# Altium footprint library Connectors.PcbLib: 51 footprints (part 3 of 4)
Each footprint in its own frame and in the unit in brackets; x right, y up, seen from the top. Pads: shape width x height; smd on the part's side, far side on the other; paste and mask are expansions set on the pad; w line width, h text height; cw(c..) or ccw(c..) is an arc to the next point about the centre after c.
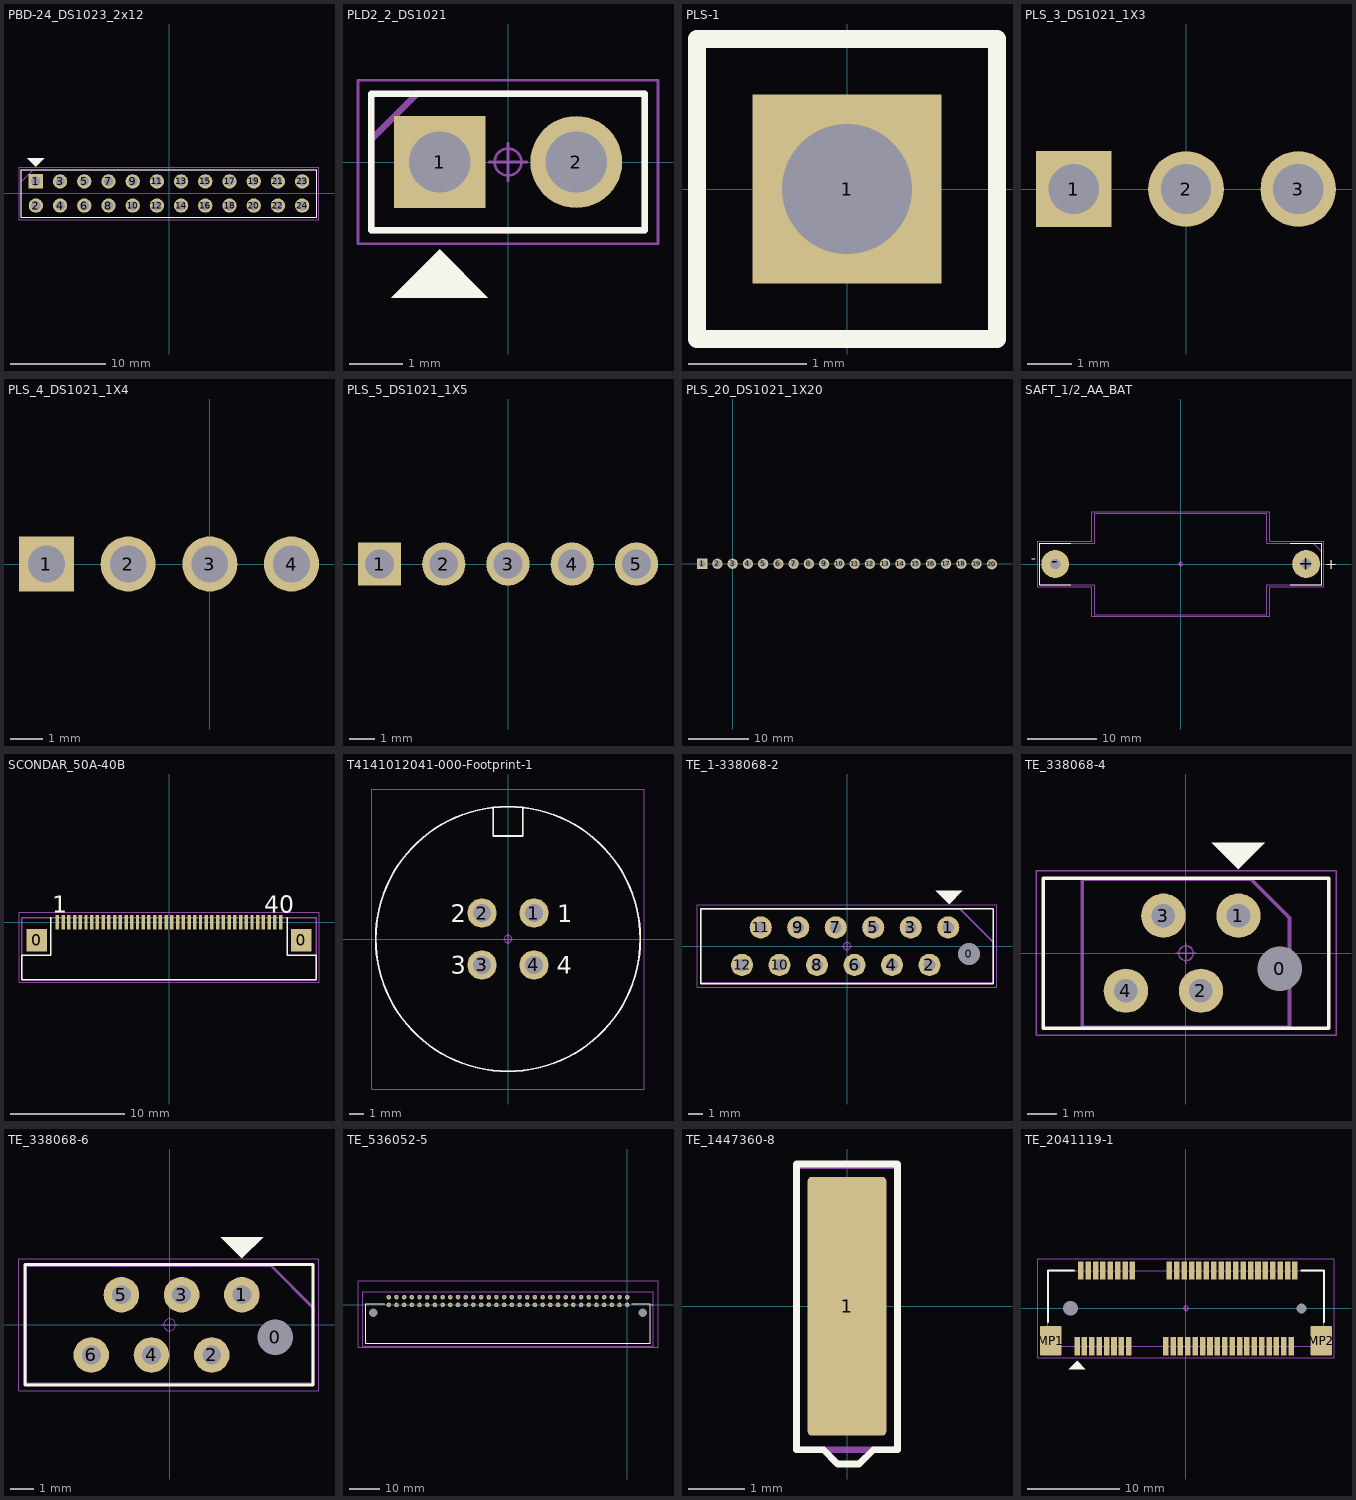
[diagram p2: the footprints below, top view; thin cyan lines are the x and y axes]

## PBD-24_DS1023_2x12 [mm] "Header, Vertical Receptacle, 2.54 mm pitch; 0.80 mm lead width, 24 pins, 2 rows, 12 pins per row, 30.98 mm L X 5.00 mm W X 8.50 mm H body"
pads (24):
  rect 1.5x1.5 hole 1 paste-2539.97: 1(-13.97,1.27)
  round 1.5 hole 1 paste-2539.97: 2(-13.97,-1.27) 3(-11.43,1.27) 4(-11.43,-1.27) 5(-8.89,1.27) 6(-8.89,-1.27) 7(-6.35,1.27) 8(-6.35,-1.27) 9(-3.81,1.27) 10(-3.81,-1.27) 11(-1.27,1.27) 12(-1.27,-1.27) 13(1.27,1.27) 14(1.27,-1.27) 15(3.81,1.27) 16(3.81,-1.27) 17(6.35,1.27) 18(6.35,-1.27) 19(8.89,1.27) 20(8.89,-1.27) 21(11.43,1.27) 22(11.43,-1.27) 23(13.97,1.27) 24(13.97,-1.27)
Top Overlay:
  region: -13.97,2.794 -13.073,3.691 -14.867,3.691
  lines w0.12: -15.49,-2.5 -15.49,2.5 15.49,2.5 15.49,-2.5 -15.49,-2.5
Mechanical 11 (Mech11):
  lines w0.12: -15.49,-2.5 -15.49,1.23 -14.22,2.5 15.49,2.5 15.49,-2.5 -15.49,-2.5
  text ".Designator" at -13.97,1.27 h1
Mechanical 15:
  lines w0.025: -15.49,-2.5 -15.49,2.5 15.49,2.5 15.49,-2.5 -15.49,-2.5
Mechanical 15 (Mech15):
  circle w0.05: c-13.97,1.27 r0.25
  lines w0.05: -14.32,1.27 -13.62,1.27 ; -13.97,0.92 -13.97,1.62 ; -15.74,-2.75 -15.74,2.75 15.74,2.75 15.74,-2.75 -15.74,-2.75
3D body "PBD-24_DS1023_2x12.STEP": height 8.5, standoff -2, extent -15.49,-2.5 15.49,2.5

## PLD2_2_DS1021 [mm] "PLD 2 pins 2.54mm"
pads (2):
  rect 1.71x1.71 hole 1.14 paste-2539.97: 1(-1.27,0)
  round 1.71 hole 1.14 paste-2539.97: 2(1.27,0)
Top Overlay:
  region: -1.27,-1.625 -2.167,-2.522 -0.373,-2.522
  lines w0.12: -2.54,-1.27 2.54,-1.27 2.54,1.27 -2.54,1.27 -2.54,-1.27
Mechanical 11 (Mech11):
  lines w0.12: -2.54,-1.27 2.54,-1.27 2.54,1.27 -1.693,1.27 -2.54,0.423 -2.54,-1.27
  text ".Designator" at -2.253,-0.226 h1
Mechanical 15 (Mech15):
  circle w0.05: c0,0 r0.25
  lines w0.05: -0.35,0 0.35,0 ; 0,-0.35 0,0.35 ; -2.79,-1.52 2.79,-1.52 2.79,1.52 -2.79,1.52 -2.79,-1.52
3D body "PLD_2P.STEP": height 8.6, standoff -2.3, extent -2.54,-1.27 2.54,1.27

## PLS-1 [mm]
pads (1):
  rect 1.6x1.6 hole 1.1: 1(0,0)
Top Overlay:
  lines w0.15: -1.27,-1.27 -1.27,1.27 1.27,1.27 1.27,-1.27 -1.27,-1.27
Mechanical 29:
  lines w0.15: -1.27,-1.27 1.27,-1.27 1.27,1.27 -1.27,1.27 -1.27,-1.27
  text ".Designator" at -1.5,1.7 h1
3D body "PLS-1.STEP": height 8.5, standoff -3, extent -1.27,-1.27 1.27,1.27

## PLS_3_DS1021_1X3 [mm] "BH-10 (DS1013-10S) (IDC-10MS), Вилка на плату прямая 10pin 2.54мм"
pads (3):
  rect 1.71x1.71 hole 1.14: 1(-2.54,0)
  round 1.71 hole 1.14: 2(0,0) 3(2.54,0)
Bottom Courtyard:
  text ".Designator" at -5.465,-0.669 h3
Mechanical 6:
  circle w0.05: c0,0 r0.25
  lines w0.05: 0,-0.35 0,0.35

## PLS_4_DS1021_1X4 [mm] "BH-10 (DS1013-10S) (IDC-10MS), Вилка на плату прямая 10pin 2.54мм"
pads (4):
  rect 1.71x1.71 hole 1.14: 1(-5.08,0)
  round 1.71 hole 1.14: 2(-2.54,0) 3(0,0) 4(2.54,0)
Bottom Courtyard:
  text ".Designator" at -5.465,-0.669 h3
Mechanical 6:
  circle w0.05: c0,0 r0.25
  lines w0.05: 0,-0.35 0,0.35

## PLS_5_DS1021_1X5 [mm] "BH-10 (DS1013-10S) (IDC-10MS), Вилка на плату прямая 10pin 2.54мм"
pads (5):
  rect 1.71x1.71 hole 1.14: 1(-5.08,0)
  round 1.71 hole 1.14: 2(-2.54,0) 3(0,0) 4(2.54,0) 5(5.08,0)
Bottom Courtyard:
  text ".Designator" at -5.465,-0.669 h3
Mechanical 6:
  circle w0.05: c0,0 r0.25
  lines w0.05: 0,-0.35 0,0.35

## PLS_20_DS1021_1X20 [mm] "BH-10 (DS1013-10S) (IDC-10MS), Вилка на плату прямая 10pin 2.54мм"
pads (20):
  rect 1.71x1.71 hole 1.14: 1(-5.08,0)
  round 1.71 hole 1.14: 2(-2.54,0) 3(0,0) 4(2.54,0) 5(5.08,0) 6(7.62,0) 7(10.16,0) 8(12.7,0) 9(15.24,0) 10(17.78,0) 11(20.32,0) 12(22.86,0) 13(25.4,0) 14(27.94,0) 15(30.48,0) 16(33.02,0) 17(35.56,0) 18(38.1,0) 19(40.64,0) 20(43.183,-0.076)
Bottom Courtyard:
  text ".Designator" at -5.465,-0.669 h3
Mechanical 6:
  circle w0.05: c0,0 r0.25
  lines w0.05: 0,-0.35 0,0.35

## SAFT_1/2_AA_BAT [mm] "Print for 1/2 AA type battery"
pads (2):
  round 4 hole 1.5: +(18,0) -(-18,0)
Top Overlay:
  lines w0.12: -15.75,-3 -20.25,-3 -20.25,3 -15.75,3 ; 15.75,-3 20.25,-3 20.25,3 15.75,3
  text "-" at -20.754,1.258 h1.52
  text "+" at 20.754,-0.75 h1.52
Mechanical 11 (Mech11):
  lines w0.12: 18,-3 20.25,-3 ; 20.25,-3 12.35,-3 12.35,-7.25 -12.35,-7.25 -12.35,-3 -20.25,-3 -20.25,3 -12.35,3 -12.35,7.25 12.35,7.25 12.35,3 19,3 20.25,1.75 20.25,-3
  text ".Designator" at -6.759,-0.678 h3
Mechanical 15 (Mech15):
  circle w0.05: c0,0 r0.25
  lines w0.05: -0.35,0 0.35,0 ; 0,-0.35 0,0.35 ; -20.5,-3.25 -20.5,3.25 -12.75,3.25 -12.75,7.5 12.75,7.5 12.75,3.25 20.5,3.25 20.5,-3.25 12.75,-3.25 12.75,-7.5 -12.75,-7.5 -12.75,-3.25 -20.5,-3.25
3D body "User Library-Pilha meioAA.STEP": height 14.75, standoff 0.25, extent -12.375,-7.275 12.375,7.225

## SCONDAR_50A-40B [mm] "ZIF разъем FFC/FPC SMT 0,5мм 40pin"
pads (42):
  rrect10% 1.8x2 smd: 0(-11.55,-1.575) 0(11.55,-1.575)
  rrect10% 0.3x1.25 smd: 1(-9.75,0) 2(-9.25,0) 3(-8.75,0) 4(-8.25,0) 5(-7.75,0) 6(-7.25,0) 7(-6.75,0) 8(-6.25,0) 9(-5.75,0) 10(-5.25,0) 11(-4.75,0) 12(-4.25,0) 13(-3.75,0) 14(-3.25,0) 15(-2.75,0) 16(-2.25,0) 17(-1.75,0) 18(-1.25,0) 19(-0.75,0) 20(-0.25,0) 21(0.25,0) 22(0.75,0) 23(1.25,0) 24(1.75,0) 25(2.25,0) 26(2.75,0) 27(3.25,0) 28(3.75,0) 29(4.25,0) 30(4.75,0) 31(5.25,0) 32(5.75,0) 33(6.25,0) 34(6.75,0) 35(7.25,0) 36(7.75,0) 37(8.25,0) 38(8.75,0) 39(9.25,0) 40(9.75,0)
Top Overlay:
  lines w0.12: -10.325,0.425 -10.325,-2.9 -12.85,-2.9 -12.85,-5 0,-5 12.85,-5 12.85,-2.9 10.325,-2.9 10.325,0.425
  text "40" at 8.332,0.825 h1.5
  text "1" at -10.179,0.825 h1.5
Mechanical 11 (Mech11):
  lines w0.12: 12.825,0.4 12.85,0.4 ; 12.85,0.4 -12.85,0.4 -12.85,-5 12.85,-5 12.85,0.4
Mechanical 15 (Mech15):
  lines w0.05: -13.1,-5.25 -13.1,0.875 -9.8,0.875 13.1,0.875 13.1,0.4 13.1,-5.25 -13.1,-5.25
3D body: height 2.1, standoff 0, extent -12.85,-5 12.825,0.4

## T4141012041-000-Footprint-1 [mm]
pads (4):
  round 2 hole 1.2: 1(1.768,1.768) 2(-1.768,1.768) 3(-1.768,-1.768) 4(1.768,-1.768)
Top Overlay:
  circle w0.12: c0,0 r9
  lines w0.12: -1,8.909 -1,7 1,7 1,8.9
  text "1" at 3.357,1.15 h1.2
  text "2" at -3.9,1.15 h1.2
  text "3" at -3.9,-2.35 h1.2
  text "4" at 3.322,-2.35 h1.2
Mechanical 11 (Mech11):
  circle w0.12: c0,0 r9
  lines w0.12: -1,8.9 -1,7 1,7 1,8.9
  text ".Designator" at -6.759,-0.678 h3
Mechanical 15 (Mech15):
  circle w0.05: c0,0 r0.25
  lines w0.05: -0.35,0 0.35,0 ; 0,-0.35 0,0.35 ; -9.25,-10.2 9.25,-10.2 9.25,10.2 -9.25,10.2 -9.25,-10.2
3D body "c-t4141012041-000-b-3d.stp": height 23, standoff -3, extent -9,-9.946 9,9.946

## TE_1-338068-2 [mm] "12 Position Receptacle Connector 0.100\" (2.54mm) Through Hole Tin"
pads (13):
  round 1 hole 1.5 unplated: 0(8.258,-0.53)
  round 1.5 hole 0.8: 1(6.858,1.27) 2(5.588,-1.27) 3(4.318,1.27) 4(3.048,-1.27) 5(1.778,1.27) 6(0.508,-1.27) 7(-0.762,1.27) 8(-2.032,-1.27) 9(-3.302,1.27) 10(-4.572,-1.27) 11(-5.842,1.27) 12(-7.112,-1.27)
Top Overlay:
  region: 6.918,2.854 7.814,3.75 6.021,3.751
  lines w0.12: -9.906,-2.54 9.906,-2.54 9.906,2.54 -9.906,2.54 -9.906,-2.54
Mechanical 11 (Mech11):
  lines w0.12: -9.906,-2.5 9.906,-2.5 9.906,0.254 7.66,2.5 -9.906,2.5 -9.906,-2.5
  text ".Designator" at -5.465,-0.669 h3
Mechanical 15 (Mech15):
  circle w0.05: c0,0 r0.25
  lines w0.05: -0.35,0 0.35,0 ; 0,-0.35 0,0.35 ; -10.16,-2.78 10.16,-2.78 10.16,2.795 -10.16,2.795 -10.16,-2.78
3D body "c-1-338068-2-f-3d.stp": height 4, standoff -3.1, extent -9.855,-2.5 9.855,2.5

## TE_338068-4 [mm] "4 Position Receptacle Connector 0.100\" (2.54mm) Through Hole Tin"
pads (5):
  round 1 hole 1.5 unplated: 0(3.178,-0.53)
  round 1.5 hole 0.8: 1(1.778,1.27) 2(0.508,-1.27) 3(-0.762,1.27) 4(-2.032,-1.27)
Top Overlay:
  region: 1.778,2.845 2.675,3.742 0.881,3.742
  lines w0.12: -4.826,-2.54 -4.826,2.54 4.826,2.54 4.826,-2.54 -4.826,-2.54
Mechanical 11 (Mech11):
  lines w0.12: -3.505,-2.5 3.505,-2.5 3.505,1.195 2.2,2.5 -3.505,2.5 -3.505,-2.5
  text ".Designator" at -5.465,-0.669 h3
Mechanical 15 (Mech15):
  circle w0.05: c0,0 r0.25
  lines w0.05: -0.35,0 0.35,0 ; 0,-0.35 0,0.35 ; -5.072,-2.78 5.078,-2.78 5.078,2.795 -5.072,2.795 -5.072,-2.78
3D body "c-338068-4-f-3d.stp": height 4, standoff -3.1, extent -4.775,-2.5 4.775,2.5

## TE_338068-6 [mm] "6 Position Receptacle Connector 0.100\" (2.54mm) Through Hole Tin"
pads (7):
  round 1 hole 1.5 unplated: 0(4.448,-0.53)
  round 1.5 hole 0.8: 1(3.048,1.27) 2(1.778,-1.27) 3(0.508,1.27) 4(-0.762,-1.27) 5(-2.032,1.27) 6(-3.302,-1.27)
Top Overlay:
  region: 3.05,2.8 3.947,3.697 2.153,3.697
  lines w0.12: -6.096,-2.54 6.05,-2.54 6.05,2.54 -6.096,2.54 -6.096,-2.54
Mechanical 11:
  lines w0.12: -6.075,-2.5 -6.075,2.5 4.275,2.5 6.05,0.725 6.05,-2.5 -6.075,-2.5
  text ".Designator" at -5.465,-0.669 h3
Bottom Courtyard:
  circle w0.05: c0,0 r0.25
  lines w0.05: -0.35,0 0.35,0 ; 0,-0.35 0,0.35 ; -6.35,-2.78 -6.35,2.795 6.3,2.795 6.3,-2.78 -6.35,-2.78
3D body "c-338068-6-f-3d.stp": height 4, standoff -3.1, extent -6.045,-2.5 6.045,2.5

## TE_536052-5 [mm] "TE 64 pin connector, Harting analogue"
pads (66):
  round 1.5 hole 1: A1(0,0) A2(-2.54,0) A3(-5.08,0) A4(-7.62,0) A5(-10.16,0) A6(-12.7,0) A7(-15.24,0) A8(-17.78,0) A9(-20.32,0) A10(-22.86,0) A11(-25.4,0) A12(-27.94,0) A13(-30.48,0) A14(-33.02,0) A15(-35.56,0) A16(-38.1,0) A17(-40.64,0) A18(-43.18,0) A19(-45.72,0) A20(-48.26,0) A21(-50.8,0) A22(-53.34,0) A23(-55.88,0) A24(-58.42,0) A25(-60.96,0) A26(-63.5,0) A27(-66.04,0) A28(-68.58,0) A29(-71.12,0) A30(-73.66,0) A31(-76.2,0) A32(-78.74,0) B1(0,2.54) B2(-2.54,2.54) B3(-5.08,2.54) B4(-7.62,2.54) B5(-10.16,2.54) B6(-12.7,2.54) B7(-15.24,2.54) B8(-17.78,2.54) B9(-20.32,2.54) B10(-22.86,2.54) B11(-25.4,2.54) B12(-27.94,2.54) B13(-30.48,2.54) B14(-33.02,2.54) B15(-35.56,2.54) B16(-38.1,2.54) B17(-40.64,2.54) B18(-43.18,2.54) B19(-45.72,2.54) B20(-48.26,2.54) B21(-50.8,2.54) B22(-53.34,2.54) B23(-55.88,2.54) B24(-58.42,2.54) B25(-60.96,2.54) B26(-63.5,2.54) B27(-66.04,2.54) B28(-68.58,2.54) B29(-71.12,2.54) B30(-73.66,2.54) B31(-76.2,2.54) B32(-78.74,2.54)
  round 1.4 hole 2.8 unplated: MH1(-83.82,-2.54) MH2(5.08,-2.54)
Top Overlay:
  lines w0.12: -80,0.36 -86.37,0.36 -86.37,-12.64 7.63,-12.64 7.63,0.36 1.5,0.36 ; 8.2,0 ccw(c8.25,0) 8.3,0 ccw(c8.25,0) 8.2,0
Mechanical 11 (Mech11):
  lines w0.12: -87.37,-13.64 -87.37,4.29 8.63,4.29 8.63,-13.64 -87.37,-13.64
  text ".Designator" at -45.009,-6.178 h3
Mechanical 15 (Mech15):
  circle w0.05: c0,0 r0.25
  lines w0.05: -0.35,0 0.35,0 ; 0,-0.35 0,0.35 ; -88.9,-14 -88.9,8 10.16,8 10.16,-14 -88.9,-14
3D body "09021646951.stp": height 6.94, standoff -2.89, extent -86.37,-12.62 7.63,2.858

## TE_1447360-8 [mm] "C-Clip PCB Spring Contact, Uncompressed Height 1.3 mm [.051 in], Length 4.5 mm [.177 in], Width 1.2 mm [.047 in], .7 mm [.028 in] Working Range (Low)"
pads (1):
  rrect10% 1.4x4.6 smd: 1(0,0)
Top Overlay:
  lines w0.12: -0.9,-2.551 -0.419,-2.551 -0.165,-2.805 0.216,-2.805 0.47,-2.551 0.9,-2.551 0.9,2.529 -0.9,2.529 -0.9,-2.551
Mechanical 11 (Mech11):
  lines w0.12: -0.9,-2.55 0.9,-2.55 0.9,2.5 -0.9,2.5 -0.9,-2.55
Mechanical 15 (Mech15):
  lines w0.05: -0.9,-2.575 0.9,-2.575 0.9,2.5 -0.9,2.5 -0.9,-2.575
3D body "c-1447360-8-b-3d.stp": height 1.3, standoff 0, extent -0.6,-2.225 0.6,2.275

## TE_2041119-1 [mm] "mSATA/mini PCI-E 4H Type I G/F"
pads (56):
  rrect10% 0.6x2 smd: 1(-11.8,-4.1) 2(-11.4,4.1) 3(-11,-4.1) 4(-10.6,4.1) 5(-10.2,-4.1) 6(-9.8,4.1) 7(-9.4,-4.1) 8(-9,4.1) 9(-8.6,-4.1) 10(-8.2,4.1) 11(-7.8,-4.1) 12(-7.4,4.1) 13(-7,-4.1) 14(-6.6,4.1) 15(-6.2,-4.1) 16(-5.8,4.1) 17(-2.2,-4.1) 18(-1.8,4.1) 19(-1.4,-4.1) 20(-1,4.1) 21(-0.6,-4.1) 22(-0.2,4.1) 23(0.2,-4.1) 24(0.6,4.1) 25(1,-4.1) 26(1.4,4.1) 27(1.8,-4.1) 28(2.2,4.1) 29(2.6,-4.1) 30(3,4.1) 31(3.4,-4.1) 32(3.8,4.1) 33(4.2,-4.1) 34(4.6,4.1) 35(5,-4.1) 36(5.4,4.1) 37(5.8,-4.1) 38(6.2,4.1) 39(6.6,-4.1) 40(7,4.1) 41(7.4,-4.1) 42(7.8,4.1) 43(8.2,-4.1) 44(8.6,4.1) 45(9,-4.1) 46(9.4,4.1) 47(9.8,-4.1) 48(10.2,4.1) 49(10.6,-4.1) 50(11,4.1) 51(11.4,-4.1) 52(11.8,4.1)
  round 1.3 hole 1.6 unplated: MH1(-12.5,0)
  round 0.9 hole 1.1 unplated: MH2(12.5,0)
  rrect10% 2.3x3.2 smd: MP1(-14.65,-3.5) MP2(14.65,-3.5)
Top Overlay:
  region: -11.8,-5.675 -12.697,-6.572 -10.903,-6.572
  lines w0.2: -14.95,-1.5 -14.95,4.1 -12.1,4.1 ; 12.5,4.1 14.95,4.1 14.95,-1.5
Mechanical 11 (Mech11):
  lines w0.1: -14.95,-4.1 14.95,-4.1 14.95,4.1 -14.95,4.1 -14.95,-4.1
  text ".Designator" at -5.465,-0.669 h3
Mechanical 15 (Mech15):
  circle w0.05: c0,0 r0.25
  lines w0.05: -0.35,0 0.35,0 ; 0,-0.35 0,0.35 ; -16.05,-5.35 -16.05,5.35 16.05,5.35 16.05,-5.35 -16.05,-5.35
3D body "c-2041119-1-c-3d.stp": height 4, standoff -0.65, extent -14.95,-4.545 14.95,4.545